# EAGLE library part MX35LF1GE4AB-Z4I (library MF_IC_Digital)
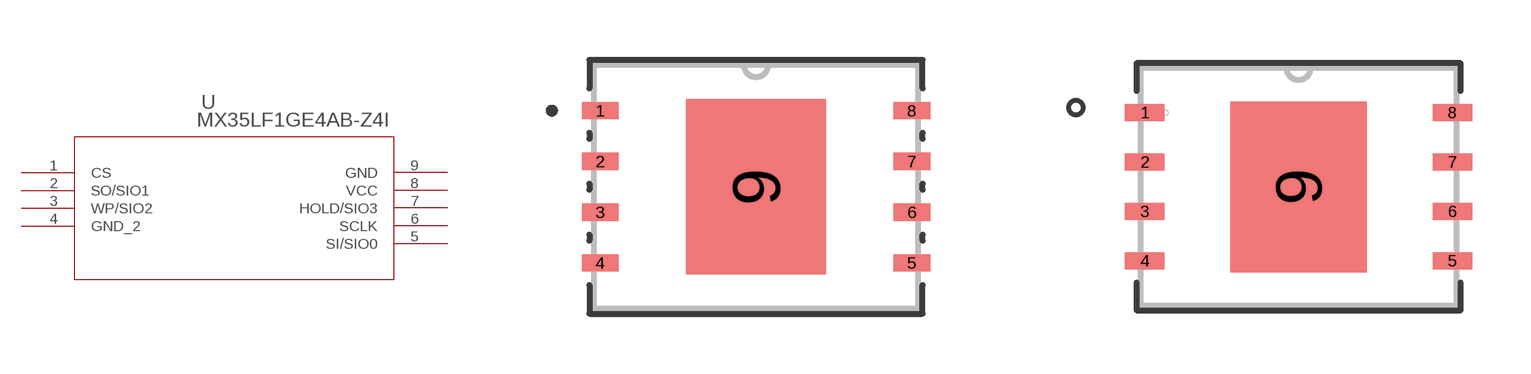
[diagram p20: symbol with the pads of 8-WSON_EP-3P4X4P3_MAC; footprints 8-WSON_EP-3P4X4P3_MAC, 8-WSON_EP-3P4X4P3_MAC-M]

Designator prefix U

## MX35LF1GE4AB-Z4I (COPYRIGHT: Copyright (C) 2025 Ultra Librarian. All rights reserved.; MANUFACTURER_PART_NUMBER: MX35LF1GE4AB-Z4I; MFR_NAME: Macronix)  [8-WSON_EP-3P4X4P3_MAC]
1  CS  pas
2  SO/SIO1
3  WP/SIO2
4  GND_2  pas
5  SI/SIO0
6  SCLK  in
7  HOLD/SIO3
8  VCC  pwr
9  GND  pas

## MX35LF1GE4AB-Z4I8-WSON_EP-3P4X4P3_MAC-M (COPYRIGHT: Copyright (C) 2025 Ultra Librarian. All rights reserved.; MANUFACTURER_PART_NUMBER: MX35LF1GE4AB-Z4I; MFR_NAME: Macronix)  [8-WSON_EP-3P4X4P3_MAC-M]
Pads as for 8-WSON_EP-3P4X4P3_MAC

## MX35LF1GE4AB-Z4I8-WSON_EP-3P4X4P3_MAC-L (COPYRIGHT: Copyright (C) 2025 Ultra Librarian. All rights reserved.; MANUFACTURER_PART_NUMBER: MX35LF1GE4AB-Z4I; MFR_NAME: Macronix)  [8-WSON_EP-3P4X4P3_MAC-L]
Pads as for 8-WSON_EP-3P4X4P3_MAC

## Footprint 8-WSON_EP-3P4X4P3_MAC (pad centres in mm)
smd 0.914 x 0.432: 1 -3.899,1.905; 2 -3.899,0.635; 3 -3.899,-0.635; 4 -3.899,-1.905; 5 3.899,-1.905; 6 3.899,-0.635; 7 3.899,0.635; 8 3.899,1.905
smd 3.505 x 4.394: 9 0,0

## Footprint 8-WSON_EP-3P4X4P3_MAC-M (pad centres in mm)
smd 1.016 x 0.432: 1 -3.95,1.905; 2 -3.95,0.635; 3 -3.95,-0.635; 4 -3.95,-1.905; 5 3.95,-1.905; 6 3.95,-0.635; 7 3.95,0.635; 8 3.95,1.905
smd 3.505 x 4.394: 9 0,0

## Footprint 8-WSON_EP-3P4X4P3_MAC-L (pad centres in mm)
smd 0.813 x 0.432: 1 -3.848,1.905; 2 -3.848,0.635; 3 -3.848,-0.635; 4 -3.848,-1.905; 5 3.848,-1.905; 6 3.848,-0.635; 7 3.848,0.635; 8 3.848,1.905
smd 3.505 x 4.394: 9 0,0